# EAGLE library part TEENSY_4.0_SIMPLE (library HyTechDevices)
Simple version of the Teensy 4.0 board that only uses the 2 main rows of pins, with no perpendicular row with VBat.
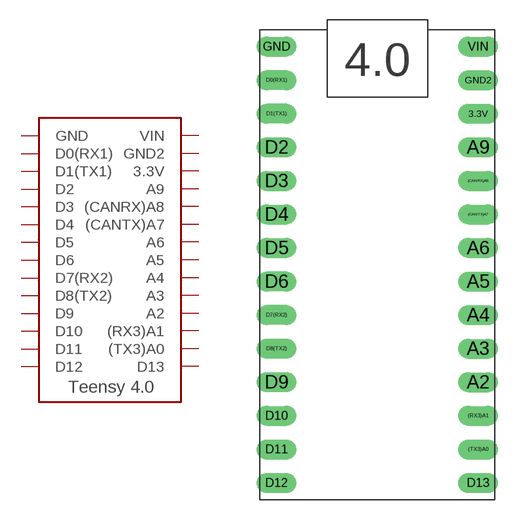
[diagram p23: symbol with the pads of TEENSY_4.0_SIMPLE; footprint TEENSY_4.0_SIMPLE]

Designator prefix -

## TEENSY_4.0_SIMPLE  [TEENSY_4.0_SIMPLE]
3.3V  3.3V
(CANRX)A8  (CANRX)A8
(CANTX)A7  (CANTX)A7
(RX3)A1  (RX3)A1
(TX3)A0  (TX3)A0
A2  A2
A3  A3
A4  A4
A5  A5
A6  A6
A9  A9
D0(RX1)  D0(RX1)
D1(TX1)  D1(TX1)
D2  D2
D3  D3
D4  D4
D5  D5
D6  D6
D7(RX2)  D7(RX2)
D8(TX2)  D8(TX2)
D9  D9
D10  D10
D11  D11
D12  D12
D13  D13
GND  GND
GND2  GND2
VIN  VIN

## Footprint TEENSY_4.0_SIMPLE (pad centres in mm)
drill 1.016 long: 3.3V 16.51,29.21; (CANRX)A8 16.51,24.13; (CANTX)A7 16.51,21.59; (RX3)A1 16.51,6.35; (TX3)A0 16.51,3.81; A2 16.51,8.89; A3 16.51,11.43; A4 16.51,13.97; A5 16.51,16.51; A6 16.51,19.05; A9 16.51,26.67; D0(RX1) 1.27,31.75; D1(TX1) 1.27,29.21; D2 1.27,26.67; D3 1.27,24.13; D4 1.27,21.59; D5 1.27,19.05; D6 1.27,16.51; D7(RX2) 1.27,13.97; D8(TX2) 1.27,11.43; D9 1.27,8.89; D10 1.27,6.35; D11 1.27,3.81; D12 1.27,1.27; D13 16.51,1.27; GND 1.27,34.29; GND2 16.51,31.75; VIN 16.51,34.29